# EAGLE library part AT32UC3A0128/0256/0512 (library atmel-avr32-michel)
AT32UC3A0128/0256/0512
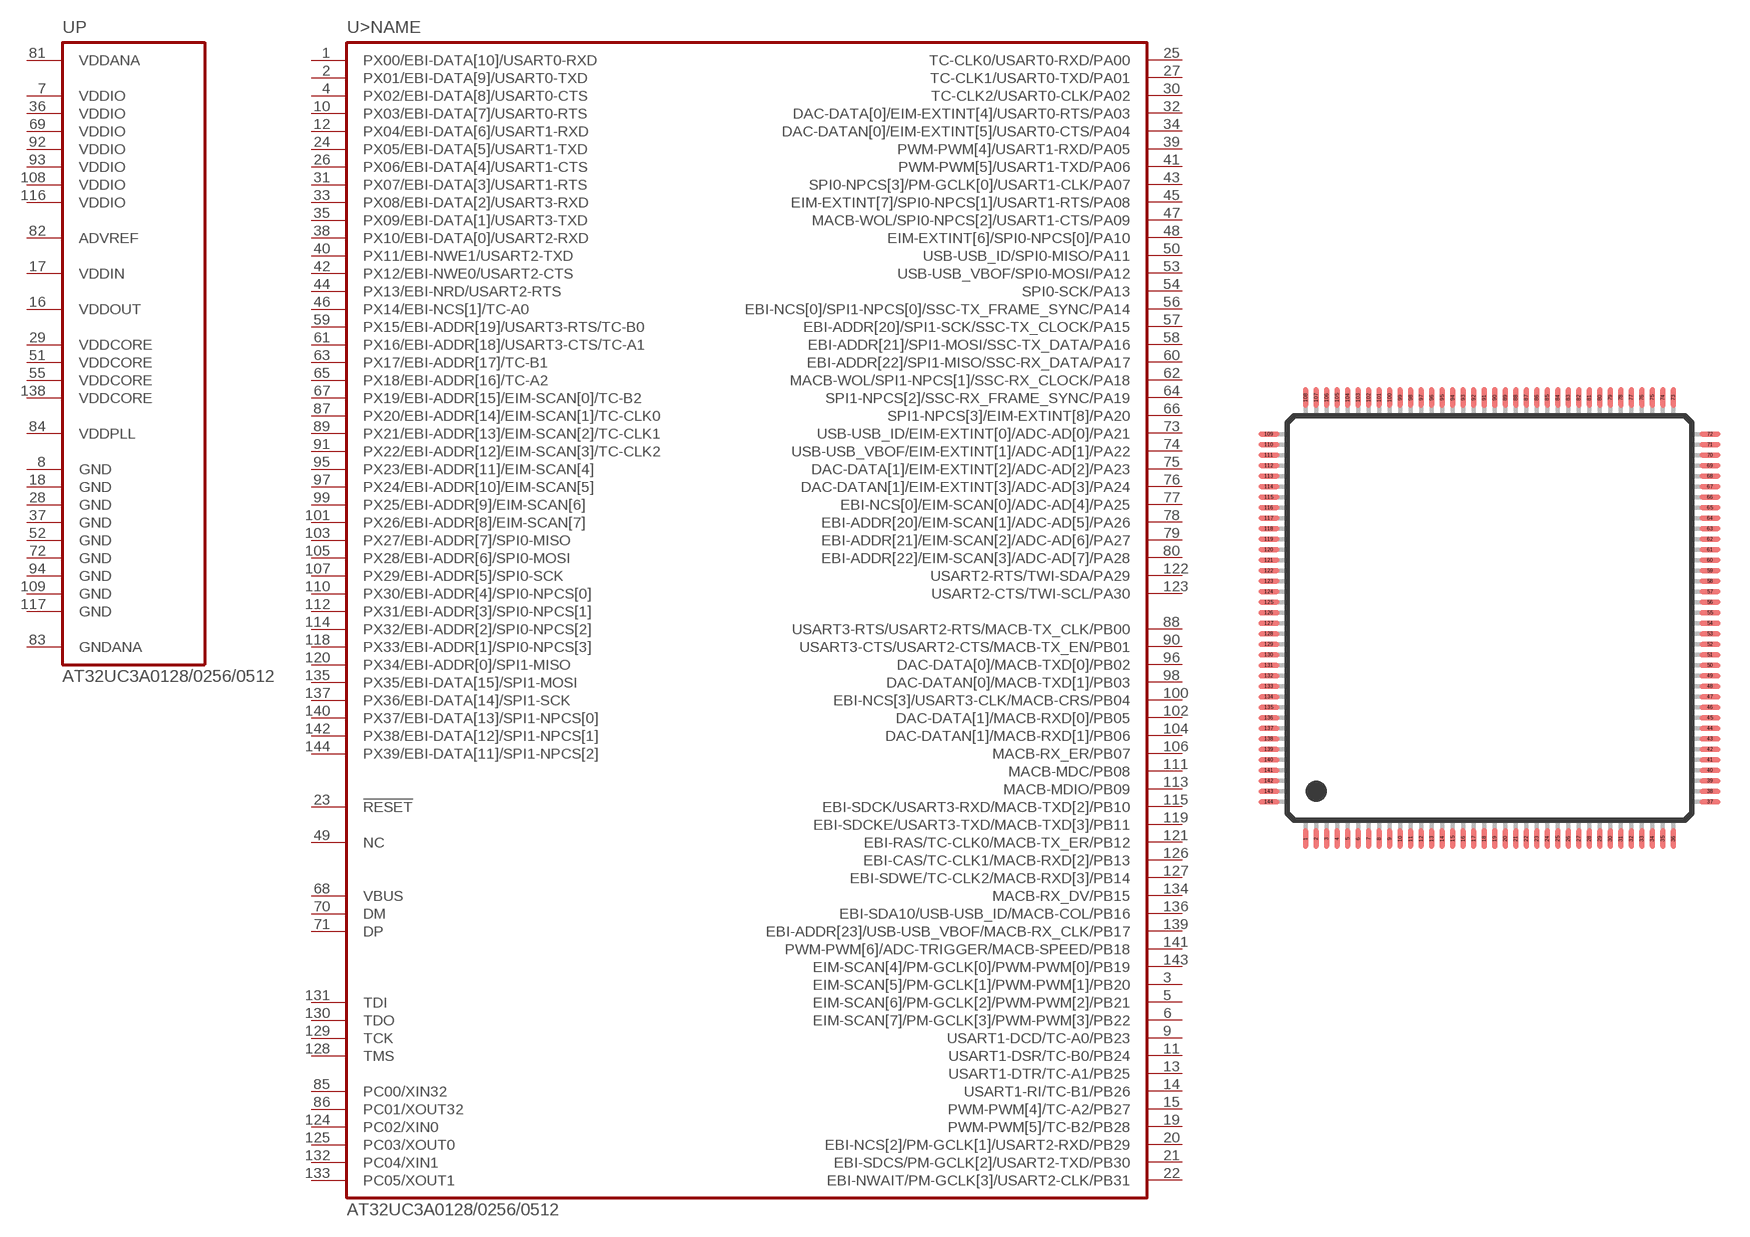
[diagram p4: symbol with the pads of LQFP144; footprint LQFP144]

Designator prefix U; gates P=AT32UC3A0XXX-P >NAME=AT32UC3A0XXX-IO

## AT32UC3A0128/0256/0512  [LQFP144]
1  >NAME:PX00/EBI-DATA[10]/USART0-RXD
2  >NAME:PX01/EBI-DATA[9]/USART0-TXD
3  >NAME:EIM-SCAN[5]/PM-GCLK[1]/PWM-PWM[1]/PB20
4  >NAME:PX02/EBI-DATA[8]/USART0-CTS
5  >NAME:EIM-SCAN[6]/PM-GCLK[2]/PWM-PWM[2]/PB21
6  >NAME:EIM-SCAN[7]/PM-GCLK[3]/PWM-PWM[3]/PB22
7  P:VDDIO  pwr
8  P:GND  pwr
9  >NAME:USART1-DCD/TC-A0/PB23
10  >NAME:PX03/EBI-DATA[7]/USART0-RTS
11  >NAME:USART1-DSR/TC-B0/PB24
12  >NAME:PX04/EBI-DATA[6]/USART1-RXD
13  >NAME:USART1-DTR/TC-A1/PB25
14  >NAME:USART1-RI/TC-B1/PB26
15  >NAME:PWM-PWM[4]/TC-A2/PB27
16  P:VDDOUT  pwr
17  P:VDDIN  pwr
18  P:GND  pwr
19  >NAME:PWM-PWM[5]/TC-B2/PB28
20  >NAME:EBI-NCS[2]/PM-GCLK[1]/USART2-RXD/PB29
21  >NAME:EBI-SDCS/PM-GCLK[2]/USART2-TXD/PB30
22  >NAME:EBI-NWAIT/PM-GCLK[3]/USART2-CLK/PB31
23  >NAME:!RESET  in
24  >NAME:PX05/EBI-DATA[5]/USART1-TXD
25  >NAME:TC-CLK0/USART0-RXD/PA00
26  >NAME:PX06/EBI-DATA[4]/USART1-CTS
27  >NAME:TC-CLK1/USART0-TXD/PA01
28  P:GND  pwr
29  P:VDDCORE  pwr
30  >NAME:TC-CLK2/USART0-CLK/PA02
31  >NAME:PX07/EBI-DATA[3]/USART1-RTS
32  >NAME:DAC-DATA[0]/EIM-EXTINT[4]/USART0-RTS/PA03
33  >NAME:PX08/EBI-DATA[2]/USART3-RXD
34  >NAME:DAC-DATAN[0]/EIM-EXTINT[5]/USART0-CTS/PA04
35  >NAME:PX09/EBI-DATA[1]/USART3-TXD
36  P:VDDIO  pwr
37  P:GND  pwr
38  >NAME:PX10/EBI-DATA[0]/USART2-RXD
39  >NAME:PWM-PWM[4]/USART1-RXD/PA05
40  >NAME:PX11/EBI-NWE1/USART2-TXD
41  >NAME:PWM-PWM[5]/USART1-TXD/PA06
42  >NAME:PX12/EBI-NWE0/USART2-CTS
43  >NAME:SPI0-NPCS[3]/PM-GCLK[0]/USART1-CLK/PA07
44  >NAME:PX13/EBI-NRD/USART2-RTS
45  >NAME:EIM-EXTINT[7]/SPI0-NPCS[1]/USART1-RTS/PA08
46  >NAME:PX14/EBI-NCS[1]/TC-A0
47  >NAME:MACB-WOL/SPI0-NPCS[2]/USART1-CTS/PA09
48  >NAME:EIM-EXTINT[6]/SPI0-NPCS[0]/PA10
49  >NAME:NC  nc
50  >NAME:USB-USB_ID/SPI0-MISO/PA11
51  P:VDDCORE  pwr
52  P:GND  pwr
53  >NAME:USB-USB_VBOF/SPI0-MOSI/PA12
54  >NAME:SPI0-SCK/PA13
55  P:VDDCORE  pwr
56  >NAME:EBI-NCS[0]/SPI1-NPCS[0]/SSC-TX_FRAME_SYNC/PA14
57  >NAME:EBI-ADDR[20]/SPI1-SCK/SSC-TX_CLOCK/PA15
58  >NAME:EBI-ADDR[21]/SPI1-MOSI/SSC-TX_DATA/PA16
59  >NAME:PX15/EBI-ADDR[19]/USART3-RTS/TC-B0
60  >NAME:EBI-ADDR[22]/SPI1-MISO/SSC-RX_DATA/PA17
61  >NAME:PX16/EBI-ADDR[18]/USART3-CTS/TC-A1
62  >NAME:MACB-WOL/SPI1-NPCS[1]/SSC-RX_CLOCK/PA18
63  >NAME:PX17/EBI-ADDR[17]/TC-B1
64  >NAME:SPI1-NPCS[2]/SSC-RX_FRAME_SYNC/PA19
65  >NAME:PX18/EBI-ADDR[16]/TC-A2
66  >NAME:SPI1-NPCS[3]/EIM-EXTINT[8]/PA20
67  >NAME:PX19/EBI-ADDR[15]/EIM-SCAN[0]/TC-B2
68  >NAME:VBUS
69  P:VDDIO  pwr
70  >NAME:DM
71  >NAME:DP
72  P:GND  pwr
73  >NAME:USB-USB_ID/EIM-EXTINT[0]/ADC-AD[0]/PA21
74  >NAME:USB-USB_VBOF/EIM-EXTINT[1]/ADC-AD[1]/PA22
75  >NAME:DAC-DATA[1]/EIM-EXTINT[2]/ADC-AD[2]/PA23
76  >NAME:DAC-DATAN[1]/EIM-EXTINT[3]/ADC-AD[3]/PA24
77  >NAME:EBI-NCS[0]/EIM-SCAN[0]/ADC-AD[4]/PA25
78  >NAME:EBI-ADDR[20]/EIM-SCAN[1]/ADC-AD[5]/PA26
79  >NAME:EBI-ADDR[21]/EIM-SCAN[2]/ADC-AD[6]/PA27
80  >NAME:EBI-ADDR[22]/EIM-SCAN[3]/ADC-AD[7]/PA28
81  P:VDDANA  pwr
82  P:ADVREF  pwr
83  P:GNDANA  pwr
84  P:VDDPLL  pwr
85  >NAME:PC00/XIN32
86  >NAME:PC01/XOUT32
87  >NAME:PX20/EBI-ADDR[14]/EIM-SCAN[1]/TC-CLK0
88  >NAME:USART3-RTS/USART2-RTS/MACB-TX_CLK/PB00
89  >NAME:PX21/EBI-ADDR[13]/EIM-SCAN[2]/TC-CLK1
90  >NAME:USART3-CTS/USART2-CTS/MACB-TX_EN/PB01
91  >NAME:PX22/EBI-ADDR[12]/EIM-SCAN[3]/TC-CLK2
92  P:VDDIO  pwr
93  P:VDDIO  pwr
94  P:GND  pwr
95  >NAME:PX23/EBI-ADDR[11]/EIM-SCAN[4]
96  >NAME:DAC-DATA[0]/MACB-TXD[0]/PB02
97  >NAME:PX24/EBI-ADDR[10]/EIM-SCAN[5]
98  >NAME:DAC-DATAN[0]/MACB-TXD[1]/PB03
99  >NAME:PX25/EBI-ADDR[9]/EIM-SCAN[6]
100  >NAME:EBI-NCS[3]/USART3-CLK/MACB-CRS/PB04
101  >NAME:PX26/EBI-ADDR[8]/EIM-SCAN[7]
102  >NAME:DAC-DATA[1]/MACB-RXD[0]/PB05
103  >NAME:PX27/EBI-ADDR[7]/SPI0-MISO
104  >NAME:DAC-DATAN[1]/MACB-RXD[1]/PB06
105  >NAME:PX28/EBI-ADDR[6]/SPI0-MOSI
106  >NAME:MACB-RX_ER/PB07
107  >NAME:PX29/EBI-ADDR[5]/SPI0-SCK
108  P:VDDIO  pwr
109  P:GND  pwr
110  >NAME:PX30/EBI-ADDR[4]/SPI0-NPCS[0]
111  >NAME:MACB-MDC/PB08
112  >NAME:PX31/EBI-ADDR[3]/SPI0-NPCS[1]
113  >NAME:MACB-MDIO/PB09
114  >NAME:PX32/EBI-ADDR[2]/SPI0-NPCS[2]
115  >NAME:EBI-SDCK/USART3-RXD/MACB-TXD[2]/PB10
116  P:VDDIO  pwr
117  P:GND  pwr
118  >NAME:PX33/EBI-ADDR[1]/SPI0-NPCS[3]
119  >NAME:EBI-SDCKE/USART3-TXD/MACB-TXD[3]/PB11
120  >NAME:PX34/EBI-ADDR[0]/SPI1-MISO
121  >NAME:EBI-RAS/TC-CLK0/MACB-TX_ER/PB12
122  >NAME:USART2-RTS/TWI-SDA/PA29
123  >NAME:USART2-CTS/TWI-SCL/PA30
124  >NAME:PC02/XIN0
125  >NAME:PC03/XOUT0
126  >NAME:EBI-CAS/TC-CLK1/MACB-RXD[2]/PB13
127  >NAME:EBI-SDWE/TC-CLK2/MACB-RXD[3]/PB14
128  >NAME:TMS
129  >NAME:TCK
130  >NAME:TDO
131  >NAME:TDI
132  >NAME:PC04/XIN1
133  >NAME:PC05/XOUT1
134  >NAME:MACB-RX_DV/PB15
135  >NAME:PX35/EBI-DATA[15]/SPI1-MOSI
136  >NAME:EBI-SDA10/USB-USB_ID/MACB-COL/PB16
137  >NAME:PX36/EBI-DATA[14]/SPI1-SCK
138  P:VDDCORE  pwr
139  >NAME:EBI-ADDR[23]/USB-USB_VBOF/MACB-RX_CLK/PB17
140  >NAME:PX37/EBI-DATA[13]/SPI1-NPCS[0]
141  >NAME:PWM-PWM[6]/ADC-TRIGGER/MACB-SPEED/PB18
142  >NAME:PX38/EBI-DATA[12]/SPI1-NPCS[1]
143  >NAME:EIM-SCAN[4]/PM-GCLK[0]/PWM-PWM[0]/PB19
144  >NAME:PX39/EBI-DATA[11]/SPI1-NPCS[2]

## Footprint LQFP144 (pad centres in mm)
LQFP144 Package
smd 0.25 x 1: 1 -8.75,-10.5; 2 -8.25,-10.5; 3 -7.75,-10.5; 4 -7.25,-10.5; 5 -6.75,-10.5; 6 -6.25,-10.5; 7 -5.75,-10.5; 8 -5.25,-10.5; 9 -4.75,-10.5; 10 -4.25,-10.5; 11 -3.75,-10.5; 12 -3.25,-10.5; 13 -2.75,-10.5; 14 -2.25,-10.5; 15 -1.75,-10.5; 16 -1.25,-10.5; 17 -0.75,-10.5; 18 -0.25,-10.5; 19 0.25,-10.5; 20 0.75,-10.5; 21 1.25,-10.5; 22 1.75,-10.5; 23 2.25,-10.5; 24 2.75,-10.5; 25 3.25,-10.5; 26 3.75,-10.5; 27 4.25,-10.5; 28 4.75,-10.5; 29 5.25,-10.5; 30 5.75,-10.5; 31 6.25,-10.5; 32 6.75,-10.5; 33 7.25,-10.5; 34 7.75,-10.5; 35 8.25,-10.5; 36 8.75,-10.5; 73 8.75,10.5; 74 8.25,10.5; 75 7.75,10.5; 76 7.25,10.5; 77 6.75,10.5; 78 6.25,10.5; 79 5.75,10.5; 80 5.25,10.5; 81 4.75,10.5; 82 4.25,10.5; 83 3.75,10.5; 84 3.25,10.5; 85 2.75,10.5; 86 2.25,10.5; 87 1.75,10.5; 88 1.25,10.5; 89 0.75,10.5; 90 0.25,10.5; 91 -0.25,10.5; 92 -0.75,10.5; 93 -1.25,10.5; 94 -1.75,10.5; 95 -2.25,10.5; 96 -2.75,10.5; 97 -3.25,10.5; 98 -3.75,10.5; 99 -4.25,10.5; 100 -4.75,10.5; 101 -5.25,10.5; 102 -5.75,10.5; 103 -6.25,10.5; 104 -6.75,10.5; 105 -7.25,10.5; 106 -7.75,10.5; 107 -8.25,10.5; 108 -8.75,10.5
smd 1 x 0.25: 37 10.5,-8.75; 38 10.5,-8.25; 39 10.5,-7.75; 40 10.5,-7.25; 41 10.5,-6.75; 42 10.5,-6.25; 43 10.5,-5.75; 44 10.5,-5.25; 45 10.5,-4.75; 46 10.5,-4.25; 47 10.5,-3.75; 48 10.5,-3.25; 49 10.5,-2.75; 50 10.5,-2.25; 51 10.5,-1.75; 52 10.5,-1.25; 53 10.5,-0.75; 54 10.5,-0.25; 55 10.5,0.25; 56 10.5,0.75; 57 10.5,1.25; 58 10.5,1.75; 59 10.5,2.25; 60 10.5,2.75; 61 10.5,3.25; 62 10.5,3.75; 63 10.5,4.25; 64 10.5,4.75; 65 10.5,5.25; 66 10.5,5.75; 67 10.5,6.25; 68 10.5,6.75; 69 10.5,7.25; 70 10.5,7.75; 71 10.5,8.25; 72 10.5,8.75; 109 -10.5,8.75; 110 -10.5,8.25; 111 -10.5,7.75; 112 -10.5,7.25; 113 -10.5,6.75; 114 -10.5,6.25; 115 -10.5,5.75; 116 -10.5,5.25; 117 -10.5,4.75; 118 -10.5,4.25; 119 -10.5,3.75; 120 -10.5,3.25; 121 -10.5,2.75; 122 -10.5,2.25; 123 -10.5,1.75; 124 -10.5,1.25; 125 -10.5,0.75; 126 -10.5,0.25; 127 -10.5,-0.25; 128 -10.5,-0.75; 129 -10.5,-1.25; 130 -10.5,-1.75; 131 -10.5,-2.25; 132 -10.5,-2.75; 133 -10.5,-3.25; 134 -10.5,-3.75; 135 -10.5,-4.25; 136 -10.5,-4.75; 137 -10.5,-5.25; 138 -10.5,-5.75; 139 -10.5,-6.25; 140 -10.5,-6.75; 141 -10.5,-7.25; 142 -10.5,-7.75; 143 -10.5,-8.25; 144 -10.5,-8.75